# Altium schematic symbol library SARA-R5.SchLib: 1 symbol
Pins are listed as number, name and electrical type; pins without a type are passive.

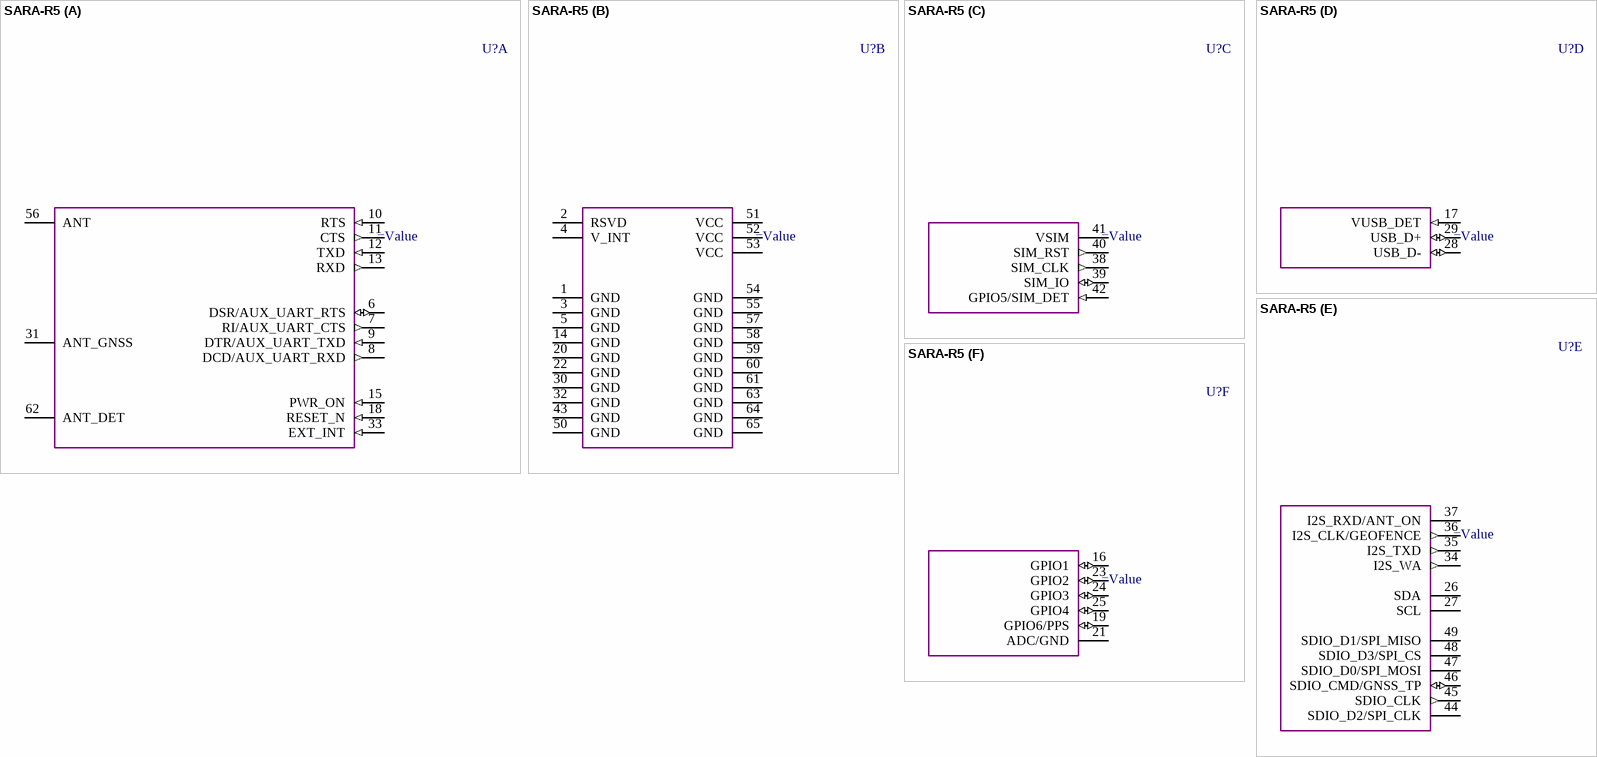
[diagram p0: symbol SARA-R5]

## SARA-R5
designator U?
u-blox SARA-xx GSM/GPRS and GSM/EGPRS/HSPA Cellular Module
part A pins: 6 DSR/AUX_UART_RTS (io), 7 RI/AUX_UART_CTS (out), 8 DCD/AUX_UART_RXD (out), 9 DTR/AUX_UART_TXD (in), 10 RTS (in), 11 CTS (out), 12 TXD (in), 13 RXD (out), 15 PWR_ON (in), 18 RESET_N (in), 31 ANT_GNSS, 33 EXT_INT (in), 56 ANT, 62 ANT_DET
part B pins: 1 GND, 2 RSVD "Leave unconnected", 3 GND, 4 V_INT, 5 GND, 14 GND, 20 GND, 22 GND, 30 GND, 32 GND, 43 GND, 50 GND, 51 VCC, 52 VCC, 53 VCC, 54 GND, 55 GND, 57 GND, 58 GND, 59 GND, 60 GND, 61 GND, 63 GND, 64 GND, 65 GND
part C pins: 38 SIM_CLK (out), 39 SIM_IO (io), 40 SIM_RST (out), 41 VSIM, 42 GPIO5/SIM_DET (in)
part D pins: 17 VUSB_DET (in), 28 USB_D- (io), 29 USB_D+ (io)
part E pins: 26 SDA, 27 SCL, 34 I2S_WA (out), 35 I2S_TXD (out), 36 I2S_CLK/GEOFENCE (out), 37 I2S_RXD/ANT_ON, 44 SDIO_D2/SPI_CLK, 45 SDIO_CLK (out), 46 SDIO_CMD/GNSS_TP (io), 47 SDIO_D0/SPI_MOSI, 48 SDIO_D3/SPI_CS, 49 SDIO_D1/SPI_MISO
part F pins: 16 GPIO1 (io), 19 GPIO6/PPS (io), 21 ADC/GND, 23 GPIO2 (io), 24 GPIO3 (io), 25 GPIO4 (io)